# Altium footprint library JST ZE SMT 6POS.PcbLib: 1 footprints
Each footprint in its own frame and in the unit in brackets; x right, y up, seen from the top. Pads: shape width x height; smd on the part's side, far side on the other; paste and mask are expansions set on the pad; w line width, h text height; cw(c..) or ccw(c..) is an arc to the next point about the centre after c.
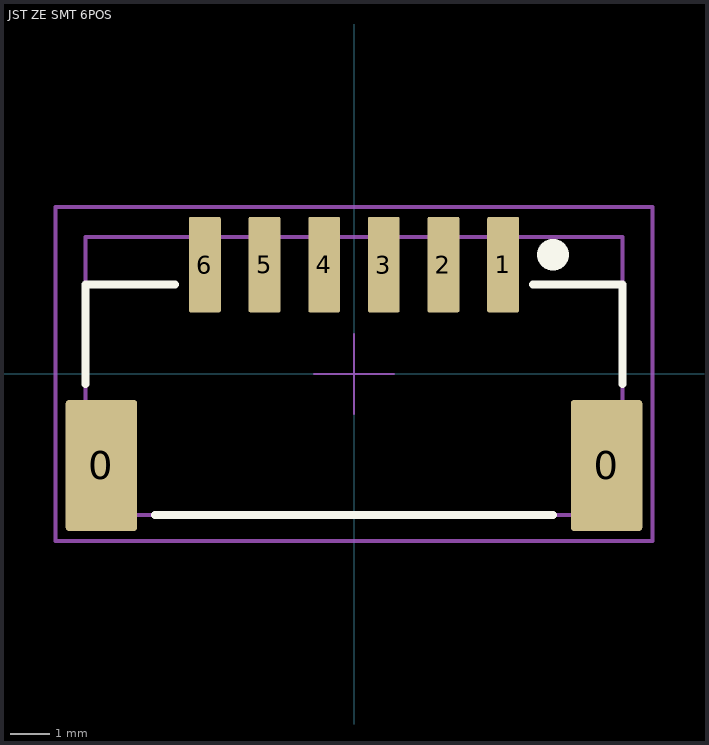
[diagram p0: the footprint, top view; thin cyan lines are the x and y axes]

## JST ZE SMT 6POS [mm] "6 POS HDR JST ZE"
pads (8):
  rrect10% 1.8x3.3 smd: 0(-6.35,-2.3) 0(6.35,-2.3)
  rrect10% 0.8x2.4 smd: 1(3.75,2.75) 2(2.25,2.75) 3(0.75,2.75) 4(-0.75,2.75) 5(-2.25,2.75) 6(-3.75,2.75)
Top Overlay:
  circle w0.8: c5,3 r0
  lines w0.2: -6.75,-0.25 -6.75,2.25 -4.5,2.25 ; -5,-3.55 5,-3.55 ; 4.5,2.25 6.75,2.25 6.75,-0.25
Mechanical 13:
  lines w0.1: -6.75,-3.55 -6.75,3.45 6.75,3.45 6.75,-3.55 -6.75,-3.55
Mechanical 15:
  lines w0.05: 0,-1 0,0 ; 0,1 0,0 ; 1,0 0,0 ; 0,0 -1,0 0,0
  lines w0.1: -7.5,-4.2 -7.5,4.2 7.5,4.2 7.5,-4.2 -7.5,-4.2